# Altium footprint library EB-500.PcbLib: 1 footprints
Each footprint in its own frame and in the unit in brackets; x right, y up, seen from the top. Pads: shape width x height; smd on the part's side, far side on the other; paste and mask are expansions set on the pad; w line width, h text height; cw(c..) or ccw(c..) is an arc to the next point about the centre after c.
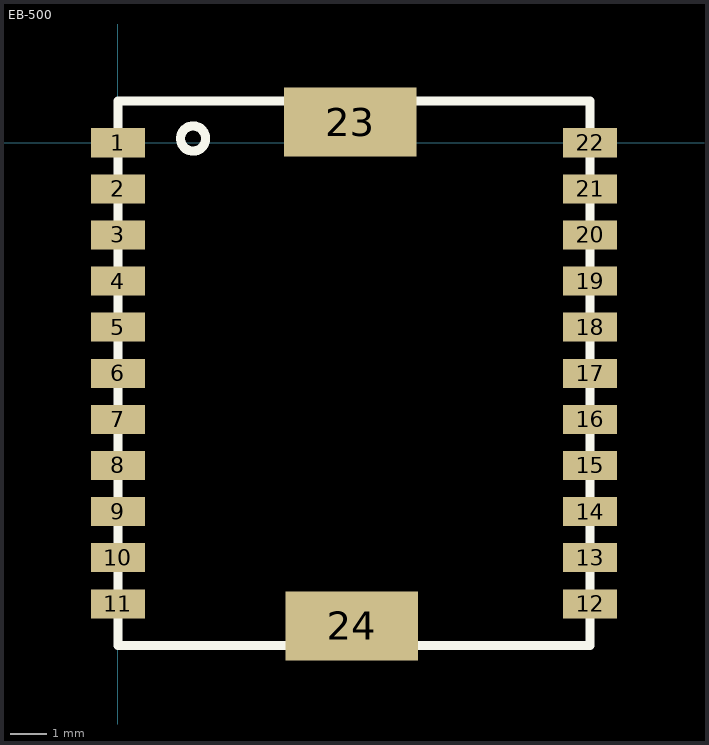
[diagram p0: the footprint, top view; thin cyan lines are the x and y axes]

## EB-500 [mm]
pads (24):
  rect 1.5x0.8 smd: 1(0,0) 2(0,-1.27) 3(0,-2.54) 4(0,-3.81) 5(0,-5.08) 6(0,-6.35) 7(0,-7.62) 8(0,-8.89) 9(0,-10.16) 10(0,-11.43) 11(0,-12.7) 12(13.003,-12.7) 13(13.003,-11.43) 14(13.003,-10.16) 15(13.003,-8.89) 16(13.003,-7.62) 17(13.003,-6.35) 18(13.003,-5.08) 19(13.003,-3.81) 20(13.003,-2.54) 21(13.003,-1.27) 22(13.003,0)
  rect 3.65x1.9 smd: 23(6.4,0.57) 24(6.44,-13.31)
Top Overlay:
  circle w0.254: c2.068,0.116 r0.346
  lines w0.254: 0.002,-13.85 0.002,1.15 13.002,1.15 13.002,-13.85 0.002,-13.85